# Altium footprint library Led.PcbLib: 40 footprints (part 2 of 3)
Each footprint in its own frame and in the unit in brackets; x right, y up, seen from the top. Pads: shape width x height; smd on the part's side, far side on the other; paste and mask are expansions set on the pad; w line width, h text height; cw(c..) or ccw(c..) is an arc to the next point about the centre after c.
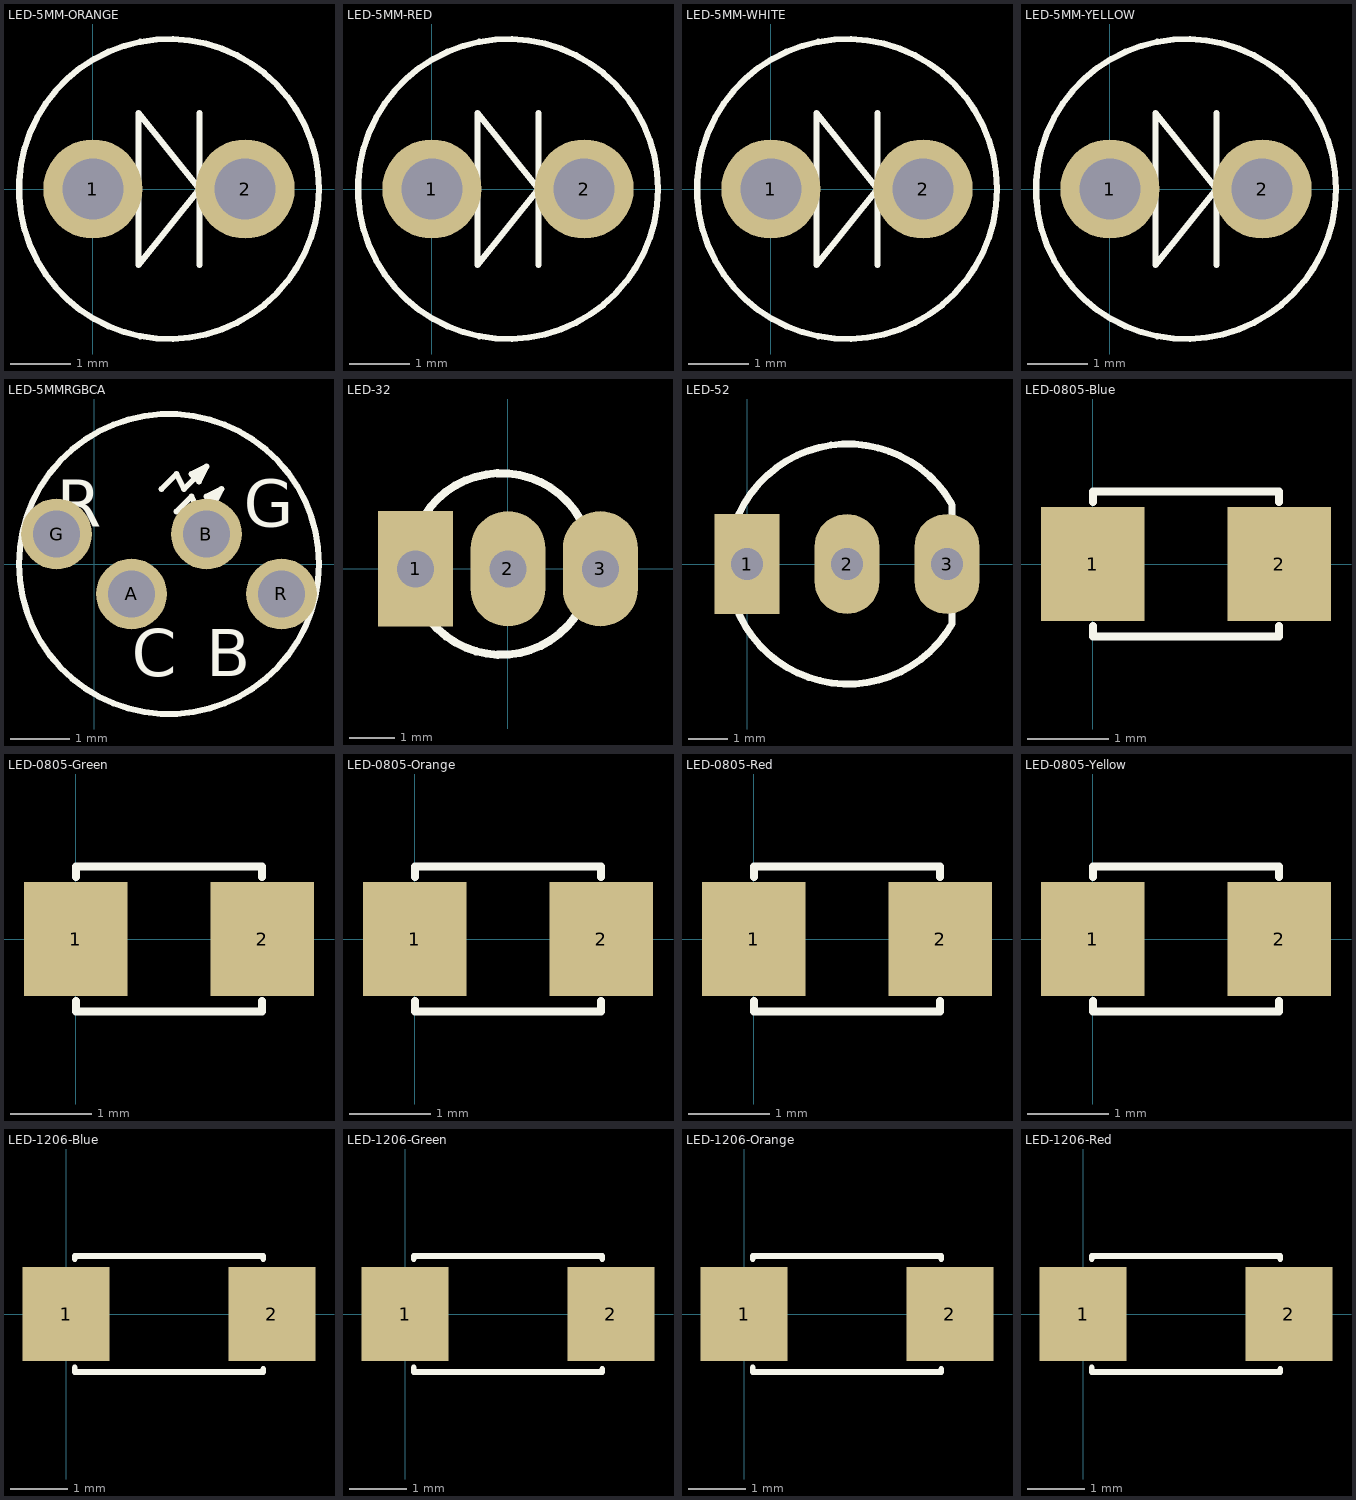
[diagram p1: the footprints below, top view; thin cyan lines are the x and y axes]

## LED-5MM-ORANGE [mil]
pads (2):
  round 65 hole 40: 1(0,0) 2(100,0)
Top Overlay:
  circle w4: c50,0 r98.43
  lines w4: 70,-50 70,0 ; 70,50 70,0 ; 70,0 30,50 30,-50 70,0
3D body: height 50, standoff -120, extent 87,-12.5 112,12.5
3D body: height 150, standoff 50, extent -13,-13 30,12
3D body: height 150, standoff 50, extent 69,-12.5 112,12.5
3D body: height 160, standoff 150, extent 35,-33 90,33
3D body: height 60, standoff -120, extent -12.5,-13 12.5,12
3D body: height 160, standoff 150, extent 21,-7 30,7
3D body: height 170, standoff 160, extent 45,-5 55,5
3D body: height 270, standoff 70, extent -49,-100 150.21,99.61
3D body: height 370, standoff 170, extent -49,-100 149.96,99.15
3D body: height 110, standoff 70, extent -54.17,-105 155,104.59

## LED-5MM-RED [mil]
pads (2):
  round 65 hole 40: 1(0,0) 2(100,0)
Top Overlay:
  circle w4: c50,0 r98.43
  lines w4: 70,-50 70,0 ; 70,50 70,0 ; 70,0 30,-50 30,50 70,0
3D body: height 110, standoff 70, extent -54.17,-105 155,104.59
3D body: height 370, standoff 170, extent -49,-100 149.96,99.15
3D body: height 270, standoff 70, extent -49,-100 150.21,99.61
3D body: height 170, standoff 160, extent 45,-5 55,5
3D body: height 160, standoff 150, extent 21,-7 30,7
3D body: height 60, standoff -120, extent -12.5,-13 12.5,12
3D body: height 160, standoff 150, extent 35,-33 90,33
3D body: height 150, standoff 50, extent 69,-12.5 112,12.5
3D body: height 150, standoff 50, extent -13,-13 30,12
3D body: height 50, standoff -120, extent 87,-12.5 112,12.5

## LED-5MM-WHITE [mil]
pads (2):
  round 65 hole 40: 1(0,0) 2(100,0)
Top Overlay:
  circle w4: c50,0 r98.43
  lines w4: 70,-50 70,0 ; 70,50 70,0 ; 70,0 30,50 30,-50 70,0
3D body: height 50, standoff -120, extent 87,-12.5 112,12.5
3D body: height 150, standoff 50, extent -13,-13 30,12
3D body: height 150, standoff 50, extent 69,-12.5 112,12.5
3D body: height 160, standoff 150, extent 35,-33 90,33
3D body: height 60, standoff -120, extent -12.5,-13 12.5,12
3D body: height 160, standoff 150, extent 21,-7 30,7
3D body: height 170, standoff 160, extent 45,-5 55,5
3D body: height 270, standoff 70, extent -49,-100 150.21,99.61
3D body: height 370, standoff 170, extent -49,-100 149.96,99.15
3D body: height 110, standoff 70, extent -54.17,-105 155,104.59

## LED-5MM-YELLOW [mil]
pads (2):
  round 65 hole 40: 1(0,0) 2(100,0)
Top Overlay:
  circle w4: c50,0 r98.43
  lines w4: 70,-50 70,0 ; 70,50 70,0 ; 70,0 30,50 30,-50 70,0
3D body: height 50, standoff -120, extent 87,-12.5 112,12.5
3D body: height 150, standoff 50, extent -13,-13 30,12
3D body: height 150, standoff 50, extent 69,-12.5 112,12.5
3D body: height 160, standoff 150, extent 35,-33 90,33
3D body: height 60, standoff -120, extent -12.5,-13 12.5,12
3D body: height 160, standoff 150, extent 21,-7 30,7
3D body: height 170, standoff 160, extent 45,-5 55,5
3D body: height 270, standoff 70, extent -49,-100 150.21,99.61
3D body: height 370, standoff 170, extent -49,-100 149.96,99.15
3D body: height 110, standoff 70, extent -54.17,-105 155,104.59

## LED-5MMRGBCA [mm]
pads (4):
  round 1.2 hole 0.8: A(0.635,-0.508) B(1.905,0.508) G(-0.635,0.508) R(3.175,-0.508)
Top Overlay:
  circle w0.102: c1.27,0 r2.54
  lines w0.102: 1.143,1.27 1.397,1.524 1.524,1.27 1.905,1.651 ; 1.397,0.889 1.651,1.143 1.778,0.889 2.159,1.27 ; 1.718,1.464 1.651,1.524 ; 1.972,1.083 1.905,1.143 ; 1.651,1.524 1.778,1.397 1.905,1.651 ; 1.651,1.524 1.905,1.651 ; 1.905,1.143 2.032,1.016 2.159,1.27 ; 1.905,1.143 2.159,1.27
  text "R" at -0.635,0.635 h0.8
  text "B" at 1.905,-1.905 h0.8
  text "G" at 2.54,0.635 h0.8
  text "C" at 0.635,-1.905 h0.8
3D body: height 2.79, standoff 1.78, extent -1.401,-2.667 3.912,2.656
3D body: height 9.4, standoff 4.32, extent -1.27,-2.54 3.783,2.518
3D body: height 6.86, standoff 1.78, extent -1.27,-2.54 3.79,2.53
3D body: height 4.06, standoff 3.81, extent 1.27,0.406 1.524,0.66
3D body: height 4.06, standoff 3.81, extent -0.025,0.356 0.203,0.711
3D body: height 1.52, standoff -3.05, extent -0.876,0.203 -0.241,0.838
3D body: height 4.06, standoff 3.81, extent 0.356,-0.965 0.914,0.864
3D body: height 3.81, standoff 1.27, extent 1.067,0.216 2.159,0.851
3D body: height 3.81, standoff 1.27, extent -0.889,0.203 0.203,0.838
3D body: height 1.27, standoff -3.05, extent 1.524,0.216 2.159,0.851
3D body: height 3.81, standoff 1.27, extent 0.33,-0.864 0.965,0.229
3D body: height 1.52, standoff -3.05, extent 0.33,-0.851 0.965,-0.216
3D body: height 4.06, standoff 3.81, extent 0.457,0 0.813,0.229
3D body: height 3.81, standoff 1.27, extent 2.464,-0.838 3.556,-0.203
3D body: height 1.52, standoff -3.05, extent 2.908,-0.838 3.543,-0.203
3D body: height 4.06, standoff 3.81, extent 2.464,-0.711 2.692,-0.356
3D body: height 4.06, standoff 3.81, extent 0.381,-0.813 2.21,-0.254

## LED-32 [mil] "LED 3 PIN, 3ly Two colour"
height 300
pads (3):
  rect 65x100 hole 32: 1(-80,0)
  oval 65x100 hole 32: 2(0,0) 3(80,0)
Top Overlay:
  lines w7: 63,-34 63,42
  lines w7.01: 62.87,42.48 ccw(c-5.92,4.16) 62.97,-33.98
3D body "User Library-LED RG.step": height 293.12, standoff -235.62, extent -88.58,-80 88.58,77.48

## LED-52 [mil] "LED 3 PIN, 5 ly , Two colour"
height 300
pads (3):
  rect 65x100 hole 32: 1(0,0)
  oval 65x100 hole 32: 2(100,0) 3(200,0)
Top Overlay:
  lines w7: 204.51,60.71 ccw(c101,0) 204.94,-59.97 ; 205,-59 205,59
3D body "User Library-5mmBiColorLED.step": height 426.6, standoff -102.4, extent -16,-115.98 210,115.98

## LED-0805-Blue [mil]
pads (2):
  rect 50x55 smd: 1(0,0) 2(90,0)
Top Overlay:
  lines w4: 0,-30 0,-35 90,-35 90,-30 ; 0,30 0,35 90,35 90,30
3D body "User Library-led_0805-blue.step": height 43.31, standoff 0, extent 5.24,-24.6 84.77,24.61

## LED-0805-Green [mil]
pads (2):
  rect 50x55 smd: 1(0,0) 2(90,0)
Top Overlay:
  lines w4: 0,-30 0,-35 90,-35 90,-30 ; 0,30 0,35 90,35 90,30
3D body "User Library-led_0805-Green.step": height 43.31, standoff 0, extent 5.24,-24.6 84.77,24.61

## LED-0805-Orange [mil]
pads (2):
  rect 50x55 smd: 1(0,0) 2(90,0)
Top Overlay:
  lines w4: 0,-30 0,-35 90,-35 90,-30 ; 0,30 0,35 90,35 90,30
3D body "User Library-led_0805-orange.step": height 43.31, standoff 0, extent 5.24,-24.59 84.77,24.62

## LED-0805-Red [mil]
pads (2):
  rect 50x55 smd: 1(0,0) 2(90,0)
Top Overlay:
  lines w4: 0,-30 0,-35 90,-35 90,-30 ; 0,30 0,35 90,35 90,30
3D body "User Library-led_0805-red.step": height 43.31, standoff 0, extent 5.25,-24.6 84.77,24.62

## LED-0805-Yellow [mil]
pads (2):
  rect 50x55 smd: 1(0,0) 2(90,0)
Top Overlay:
  lines w4: 0,-30 0,-35 90,-35 90,-30 ; 0,30 0,35 90,35 90,30
3D body "User Library-led_0805-yellow.step": height 43.31, standoff 0, extent 5.25,-24.6 84.77,24.62

## LED-1206-Blue [mil] "Compoment SMD 120x60mil"
height 50
pads (2):
  rect 60x65 smd: 1(0,0) 2(142,0)
Top Overlay:
  lines w4: 6,-37 6,-40 136,-40 136,-38 ; 6,38 6,40 136,40 136,38
3D body "User Library-led_1206-blue.step": height 43.31, standoff 0, extent 6.62,-31.49 133.39,31.5

## LED-1206-Green [mil]
pads (2):
  rect 60x65 smd: 1(0,0) 2(142,0)
Top Overlay:
  lines w4: 6,-37 6,-40 136,-40 136,-38 ; 6,38 6,40 136,40 136,38
3D body "User Library-led_1206-green.step": height 43.31, standoff 0, extent 6.62,-31.49 133.39,31.5

## LED-1206-Orange [mil]
pads (2):
  rect 60x65 smd: 1(0,0) 2(142,0)
Top Overlay:
  lines w4: 6,-37 6,-40 136,-40 136,-38 ; 6,38 6,40 136,40 136,38
3D body "User Library-led_1206-yellow.step": height 43.31, standoff 0, extent 6.62,-31.49 133.39,31.5

## LED-1206-Red [mil]
pads (2):
  rect 60x65 smd: 1(0,0) 2(142,0)
Top Overlay:
  lines w4: 6,-37 6,-40 136,-40 136,-38 ; 6,38 6,40 136,40 136,38
3D body "User Library-led_1206-red.step": height 43.31, standoff 0, extent 6.62,-31.49 133.39,31.5